# Altium footprint library Summits7Beta_LIB_Pasivos_PCB.PcbLib: 9 footprints
Each footprint in its own frame and in the unit in brackets; x right, y up, seen from the top. Pads: shape width x height; smd on the part's side, far side on the other; paste and mask are expansions set on the pad; w line width, h text height; cw(c..) or ccw(c..) is an arc to the next point about the centre after c.
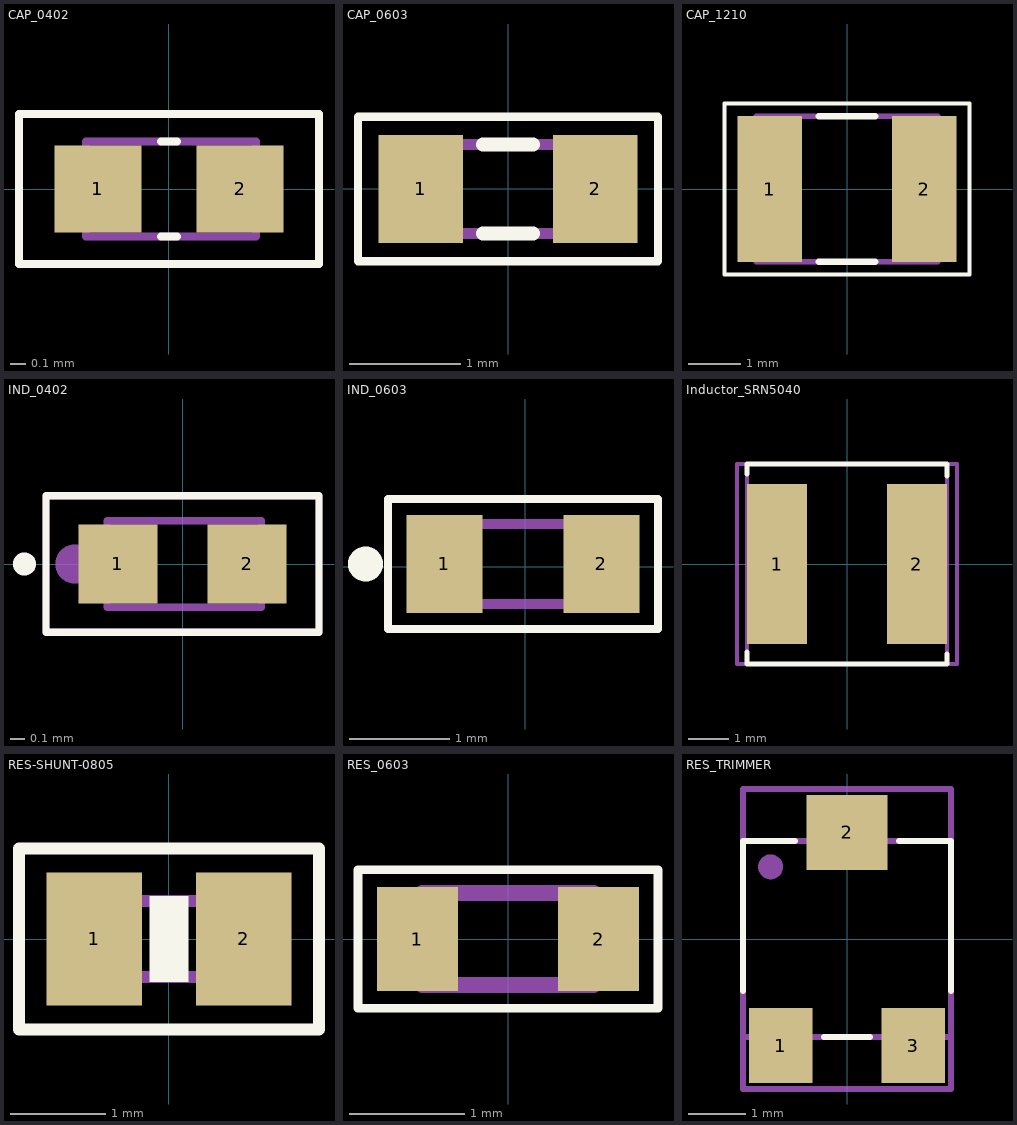
[diagram p0: the footprints below, top view; thin cyan lines are the x and y axes]

## CAP_0402 [mm] "Footprint Cap Ceramic 0402"
pads (2):
  rect 0.55x0.55 smd: 1(-0.45,0) 2(0.45,0)
Top Overlay:
  lines w0.051: -0.05,-0.3 0.05,-0.3 ; -0.05,0.3 0.05,0.3 ; -0.95,-0.475 0.95,-0.475 0.95,0.475 -0.95,0.475 -0.95,-0.475
Mechanical 13:
  lines w0.051: -0.525,-0.3 -0.525,0.3 0.55,0.3 0.55,-0.3 -0.525,-0.3
  text "'.Designator'" at -0.375,-0.15 h0.3
Mechanical 15:
  lines w0.05: -0.95,-0.475 -0.95,0.475 0.95,0.475 0.95,-0.475 -0.95,-0.475
3D body "Cap0402.step": height 0.51, standoff 0.01, extent -0.5,-0.25 0.5,0.25

## CAP_0603 [mm] "Footprint Cap Ceramic 0603"
pads (2):
  rect 0.762x0.976 smd: 1(-0.785,0) 2(0.785,0)
Top Overlay:
  lines w0.076: -1.35,-0.65 -1.35,0.65 1.35,0.65 1.35,-0.65 -1.35,-0.65
  lines w0.127: -0.225,-0.4 0.225,-0.4 ; -0.225,0.4 0.225,0.4
Mechanical 13:
  lines w0.102: -0.74,-0.4 -0.74,0.4 0.74,0.4 0.74,-0.4 -0.74,-0.4
  text "'.Designator'" at -0.575,-0.15 h0.3
Mechanical 15:
  lines w0.05: -1.35,-0.65 1.35,-0.65 1.35,0.65 -1.35,0.65 -1.35,-0.65
3D body "Cap0603.step": height 0.81, standoff 0.01, extent -0.8,-0.4 0.8,0.4

## CAP_1210 [mm] "Footprint Cap Ceramic 1210"
pads (2):
  rect 1.24x2.81 smd: 1(-1.485,0) 2(1.485,0)
Top Overlay:
  lines w0.076: -2.362,-1.651 2.362,-1.651 2.362,1.651 -2.362,1.651 -2.362,-1.651
  lines w0.127: -0.54,-1.4 0.54,-1.4 ; -0.54,1.4 0.54,1.4
Mechanical 13:
  lines w0.102: -1.75,-1.4 1.75,-1.4 1.75,1.4 -1.75,1.4 -1.75,-1.4
  text "'.Designator'" at -1.175,-0.225 h0.5
Mechanical 15:
  lines w0.05: -2.355,-1.655 2.355,-1.655 2.355,1.655 -2.355,1.655 -2.355,-1.655
3D body "Cap1210.step": height 0.79, standoff 0.01, extent -1.6,-1.25 1.6,1.25

## IND_0402 [mm] "Footprint de Inductor 0402"
pads (2):
  rect 0.55x0.55 smd: 1(-0.45,0) 2(0.45,0)
Top Overlay:
  circle w0.084: c-1.1,0 r0.038
  lines w0.051: -0.95,-0.475 0.95,-0.475 0.95,0.475 -0.95,0.475 -0.95,-0.475
Mechanical 13:
  circle w0.2: c-0.75,0 r0.035
  lines w0.051: -0.525,-0.3 -0.525,0.3 0.55,0.3 0.55,-0.3 -0.525,-0.3
  text "'.Designator'" at -0.406,-0.15 h0.3
Mechanical 15:
  lines w0.05: -0.95,-0.475 -0.95,0.475 0.95,0.475 0.95,-0.475 -0.95,-0.475
3D body "Ind0402.step": height 0.51, standoff 0.01, extent -0.5,-0.3 0.5,0.3

## IND_0603 [mm] "Footprint de Inductor 0603"
pads (2):
  rect 0.762x0.976 smd: 1(-0.81,0.025) 2(0.76,0.025)
Top Overlay:
  circle w0.2: c-1.6,0.025 r0.075
  lines w0.076: -1.375,-0.625 -1.375,0.675 1.325,0.675 1.325,-0.625 -1.375,-0.625
Mechanical 13:
  circle w0.2: c-1.05,0 r0.035
  lines w0.102: -0.765,-0.375 -0.765,0.425 0.715,0.425 0.715,-0.375 -0.765,-0.375
  text "'.Designator'" at -0.525,-0.125 h0.3
Mechanical 15:
  lines w0.05: -1.375,-0.625 1.325,-0.625 1.325,0.675 -1.375,0.675 -1.375,-0.625
3D body "Ind0603.step": height 0.81, standoff 0.01, extent -0.8,-0.45 0.8,0.5

## Inductor_SRN5040 [mm] "Inductor_SRN5040"
pads (2):
  rect 1.5x4 smd: 1(-1.75,0) 2(1.75,0)
Top Overlay:
  lines w0.127: -2.5,-2.2 -2.5,-2.5 2.5,-2.5 2.5,-2.25 ; -2.5,2.25 -2.5,2.5 2.5,2.5 2.5,2.2
Mechanical 13:
  lines w0.1: -2.5,-1.8 -1.375,-1.8 -1.375,1.85 -2.5,1.85 ; 2.5,-1.85 1.375,-1.85 1.375,1.8 2.5,1.8
  lines w0.102: -2.5,-2.5 2.5,-2.5 2.5,2.5 -2.5,2.5 -2.5,-2.5
  text "'.Designator'" at -0.2,1.25 h0.5
Mechanical 15:
  lines w0.102: -2.75,-2.5 2.75,-2.5 2.75,2.5 -2.75,2.5 -2.75,-2.5
3D body "Inductor_Buck_SRN5040.step": height 4.01, standoff 0.01, extent -2.5,-2.5 2.5,2.5

## RES-SHUNT-0805 [mm] "SHUNT 0805"
pads (2):
  rect 1x1.4 smd: 1(-0.785,0) 2(0.785,0)
Top Overlay:
  region: -0.2,0.45 0.2,0.45 0.2,-0.45 -0.2,-0.45
  lines w0.127: -1.575,-0.95 1.575,-0.95 1.575,0.95 -1.575,0.95 -1.575,-0.95
Mechanical 13:
  lines w0.102: -0.74,-0.4 -0.74,0.4 ; 0.74,-0.4 0.74,0.4
  lines w0.127: -0.74,-0.4 0.74,-0.4 ; -0.74,0.4 0.74,0.4
  text "'.Designator'" at -0.625,-0.125 h0.3
Mechanical 15:
  lines w0.05: -1.575,-0.95 -1.575,0.95 1.575,0.95 1.575,-0.95 -1.575,-0.95
3D body: height 0.4, standoff -0.4, extent 0.025,-0.025 0.025,-0.025
3D body "Shunt_0805.step": height 0.63, standoff 0.01, extent -0.985,-0.66 1.035,0.61

## RES_0603 [mm] "Footprint Resistor 0603"
pads (2):
  rect 0.7x0.9 smd: 1(-0.785,0) 2(0.785,0)
Top Overlay:
  lines w0.076: -1.3,-0.6 -1.3,0.6 1.3,0.6 1.3,-0.6 -1.3,-0.6
Mechanical 13:
  lines w0.089: -0.74,-0.4 -0.74,0.4 ; 0.74,-0.4 0.74,0.4
  lines w0.14: -0.74,-0.4 0.74,-0.4 ; -0.74,0.4 0.74,0.4
  text "'.Designator'" at -0.525,-0.15 h0.3
Mechanical 15:
  lines w0.05: -1.3,-0.6 1.3,-0.6 1.3,0.6 -1.3,0.6 -1.3,-0.6
3D body "Res0603.step": height 0.46, standoff 0.01, extent -0.8,-0.4 0.8,0.4

## RES_TRIMMER [mm] "Trimmer"
pads (3):
  rect 1.1x1.3 smd: 1(-1.15,-1.85) 3(1.15,-1.85)
  rect 1.4x1.3 smd: 2(0,1.85)
Top Overlay:
  lines w0.102: -1.8,-0.9 -1.8,1.7 -0.9,1.7 ; -0.4,-1.7 0.4,-1.7 ; 0.9,1.7 1.8,1.7 1.8,-0.9
Mechanical 13:
  circle w0.25: c-1.325,1.25 r0.09
  lines w0.1: -1.525,-1.7 -1.525,-2.175 -0.8,-2.175 -0.8,-1.7 ; -0.5,1.7 -0.5,2.3 0.525,2.3 0.525,1.725 0.5,1.7 ; 0.775,-1.7 0.775,-2.175 1.525,-2.175 1.525,-1.725 1.55,-1.7
  lines w0.102: -1.8,-1.7 -1.8,1.7 1.8,1.7 1.8,-1.7 -1.8,-1.7
  text "'.Designator'" at -1.05,-0.225 h0.5
Mechanical 15:
  lines w0.102: -1.8,-2.6 -1.8,2.6 1.8,2.6 1.8,-2.6 -1.8,-2.6
3D body "TRIMMER_PVG3A.STEP": height 2, standoff 0, extent -1.7,-1.8 1.7,1.8